# Altium footprint library V2S.PcbLib: 37 footprints (part 3 of 3)
Each footprint in its own frame and in the unit in brackets; x right, y up, seen from the top. Pads: shape width x height; smd on the part's side, far side on the other; paste and mask are expansions set on the pad; w line width, h text height; cw(c..) or ccw(c..) is an arc to the next point about the centre after c.
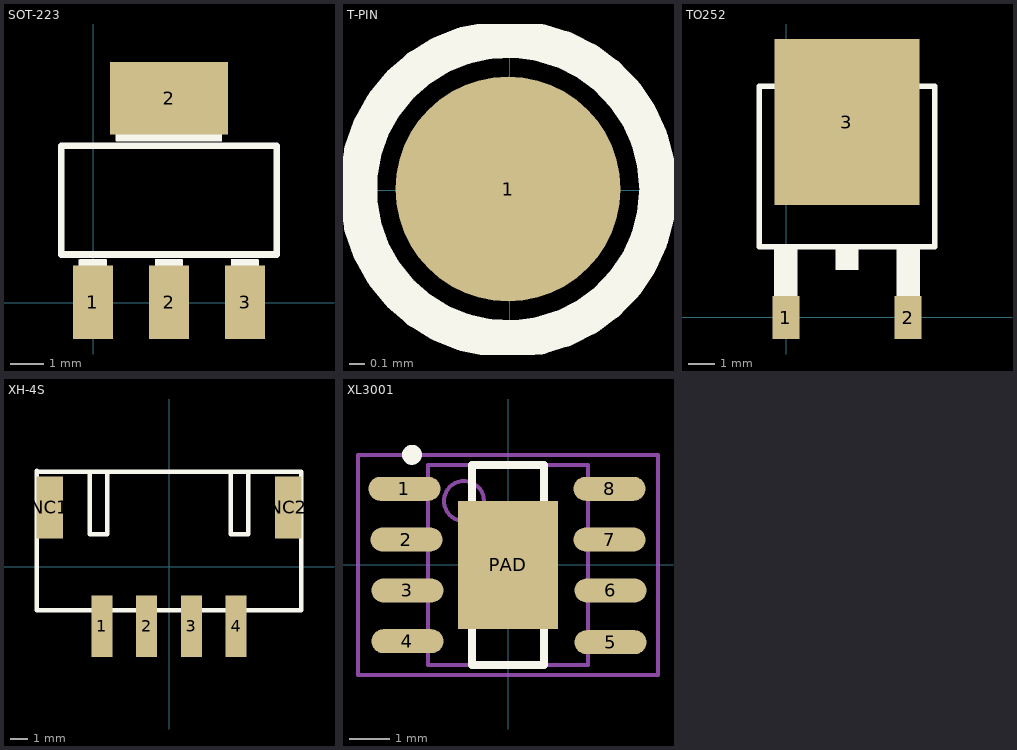
[diagram p2: the footprints below, top view; thin cyan lines are the x and y axes]

## SOT-223 [mil]
pads (4):
  rect 48x88 smd: 1(-0.33,0.37) 2(90.67,0.37) 3(181.67,0.37)
  rect 141.73x86.61 smd: 2(90.67,244.38)
Top Overlay:
  rectangle: 164.63,-21.64 198.63,51.36
  rectangle: -17.37,-21.64 16.63,51.36
  rectangle: 73.63,-21.64 107.63,51.36
  rectangle: 27.63,193.36 153.63,266.36
  rectangle: 164.63,-21.64 198.63,51.36
  rectangle: -17.37,-21.64 16.63,51.36
  rectangle: 73.63,-21.64 107.63,51.36
  lines w0.01: -15.63,-19.36 -15.63,51.51 15.87,51.51 15.87,-19.36 -15.63,-19.36 ; 27.68,193.24 27.68,264.1 153.66,264.1 153.66,193.24 27.68,193.24 ; 74.92,-19.36 74.92,51.51 106.42,51.51 106.42,-19.36 74.92,-19.36 ; 165.47,-19.36 165.47,51.51 196.97,51.51 196.97,-19.36 165.47,-19.36
  lines w0.07: -39.25,55.44 -39.25,189.3 220.59,189.3 220.59,55.44 -39.25,55.44
  lines w8: -38.33,57.37 -38.33,187.37 219.67,187.37 219.67,57.37 -38.33,57.37

## T-PIN [mm]
pads (1):
  round 1.5 smd: 1(-0.012,0.007)
Top Overlay:
  circle w0.25: c-0.012,0.007 r1

## TO252 [mm]
pads (3):
  rect 1x1.6 smd: 1(-0.006,-0.008) 2(4.554,-0.008)
  rect 5.4x6.2 smd: 3(2.274,7.292)
Top Overlay:
  rectangle: -0.443,-0.364 0.42,2.531
  rectangle: 4.129,-0.364 4.992,2.531
  rectangle: 1.843,1.769 2.706,2.531
  lines w0.203: -1.003,8.627 5.552,8.626 ; -1.002,8.627 -1.003,2.633 5.551,2.633 5.551,8.627 ; -0.291,8.729 -0.291,9.44 0.166,9.897 4.383,9.897 4.84,9.44 4.84,8.729 -0.291,8.729

## XH-4S [mm]
pads (6):
  rect 1.2x3.5 smd: 1(-3.818,-3.375) 2(-1.278,-3.375) 3(1.262,-3.375) 4(3.802,-3.375)
  rect 1.5x3.5 smd: NC1(-6.768,3.375) NC2(6.752,3.375)
Top Overlay:
  lines w0.25: -7.508,-2.454 7.492,-2.454 7.492,5.4 -7.508,5.4 ; -7.508,-2.4 -7.508,5.454 ; -4.508,5.4 -4.508,1.844 -3.508,1.844 -3.508,5.4 ; 3.492,5.4 3.492,1.844 4.492,1.844 4.492,5.4

## XL3001 [mm]
height 2
pads (9):
  oval 1.8x0.6 smd: 1(-2.591,1.905) 2(-2.54,0.635) 3(-2.515,-0.635) 4(-2.515,-1.905) 5(2.565,-1.93) 6(2.565,-0.635) 7(2.54,0.635) 8(2.54,1.905)
  rect 2.5x3.2 smd: PAD(0,0)
Top Overlay:
  circle w0.25: c-2.4,2.755 r0.125
  lines w0.2: -0.9,-2.5 -0.9,2.5 0.9,2.5 0.9,-2.5 -0.9,-2.5
Mechanical 13:
  circle w0.1: c-1.1,1.6 r0.5
  lines w0.1: -2,-2.5 -2,2.5 2,2.5 2,-2.5 -2,-2.5
Mechanical 15:
  lines w0.1: -0.5,0 0.5,0 ; 0,-0.5 0,0.5 ; -3.75,-2.75 -3.75,2.75 3.75,2.75 3.75,-2.75 -3.75,-2.75
3D body: height 1.75, standoff 0, extent -2,-2.5 2,2.5